# Altium schematic symbol library P2-Adapter-ver1.SchLib: 80 symbols
Pins are listed as number, name and electrical type; pins without a type are passive.

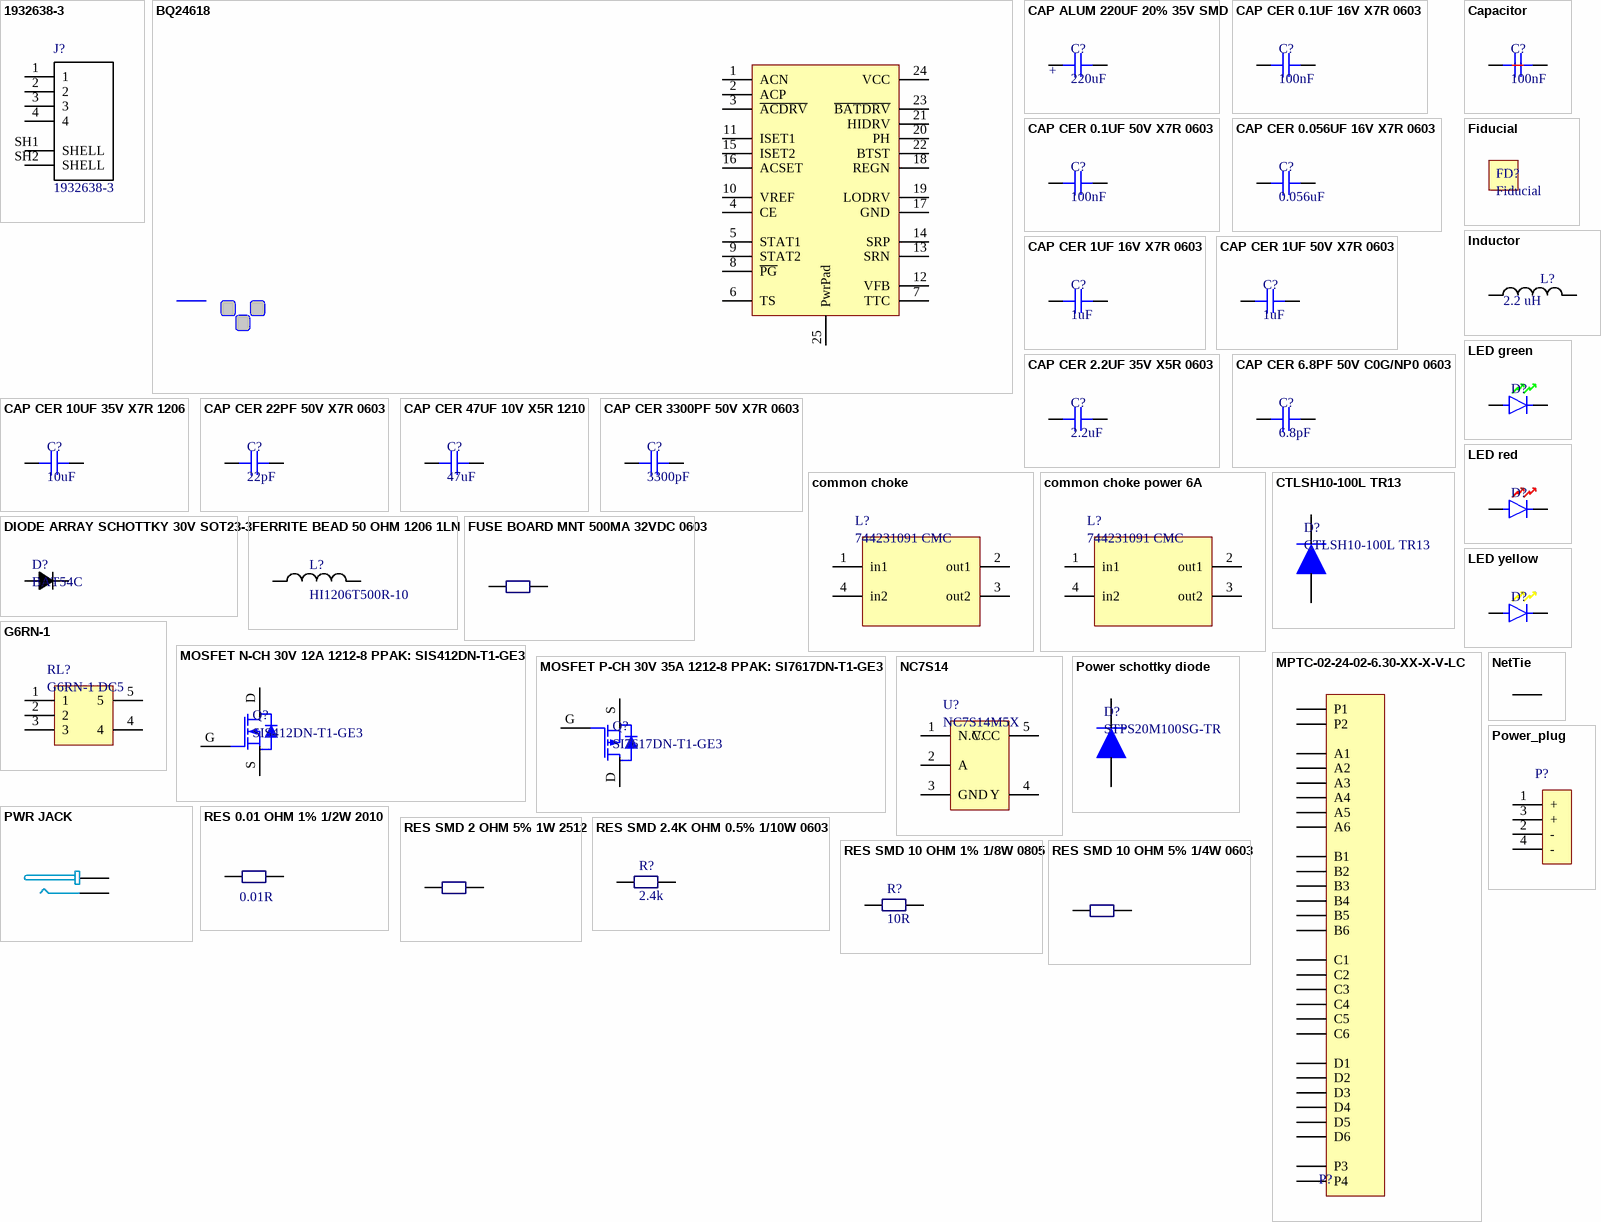
[diagram p0: symbols 1932638-3 to RES SMD 10 OHM 5% 1/4W 0603]

## 1932638-3
designator J?
Conn USB RCP 4 POS 2mm Solder RA SMD 4 Terminal 1 Port T/R; Manufacturer: TE Connectivity; Digi-Key_Purchase_URL: https://www.digikey.no/product-detail/en/te-connectivity-amp-connectors/1932638-3/A117902CT-ND/4729915?WT.z_cid=ref_snapeda&utm_source=snapeda&utm_medium=aggregator&utm_campaign=buynow; Digi-Key_Part_Number: A117902CT-ND; Package: None; SnapEDA_Link: https://www.snapeda.com/parts/1932638-3/TE%20Connectivity%20AMP%20Connectors/view-part/?ref=snap; MPN: 1932638-3; Value: *
footprint TE_1932638-3
pins: 1, 2, 3, 4, SH1 SHELL, SH2 SHELL

## BQ24618
designator U?, comment BQ24618RGET
IC SYNC SW-MODE BAT CHRGR 24VQFN; Manufacturer: Texas Instruments; Supplier Part Number 1: 296-28018-1-ND; MPN: BQ24618RGET; Supplier 1: Digi-Key
footprint BQ24618RGET (BQ24618RGET QFN, 24-Leads, Body 4,00x4,00mm, Pitch 0,50mm, Thermal Pad 2,45x2,45mm, IPC Medium Density)
pins: 1 ACN, 2 ACP, 3 ~{ACDRV}, 4 CE, 5 STAT1, 6 TS, 7 TTC, 8 ~{PG}, 9 STAT2, 10 VREF, 11 ISET1, 12 VFB, 13 SRN, 14 SRP, 15 ISET2, 16 ACSET, 17 GND, 18 REGN, 19 LODRV, 20 PH, 21 HIDRV, 22 BTST, 23 ~{BATDRV}, 24 VCC, 25 PwrPad

## CAP ALUM 220UF 20% 35V SMD
designator C?, comment 220uF
CAP ALUM 220UF 20% 35V SMD; MPN: UCW1V221MNL1GS; Manufacturer: Nichicon; SPN: 493-9430-1-ND; value: 220uF; Supplier: Digi-Key
footprint PCAP_8x10-ELECT
pins: 1, 2
1 alternate drawing of the same symbol
text: +

## CAP CER 0.1UF 16V X7R 0603
designator C?, comment 100nF
CAP CER 0.1UF 16V X7R 0603; MPN: CL10B104KO8NNNC; Manufacturer: Samsung Electro-Mechanics; value: 100nF; Supplier 1: Digi-Key; Supplier Part Number 1: 1276-1005-1-ND
footprint 0603 Capacitor (Chip Capacitor, Body 1.6x0.8mm, Height 0.55mm, IPC High Density)
pins: 1, 2

## CAP CER 0.1UF 50V X7R 0603
designator C?, comment 100nF
CAP CER 0.1UF 50V X7R 0603; MPN: CL10B104KB8NNNC; Manufacturer: Samsung Electro-Mechanics; value: 100nF; Supplier 1: Digi-Key; Supplier Part Number 1: 1276-1000-1-ND
footprint 0603 Capacitor (Chip Capacitor, Body 1.6x0.8mm, Height 0.55mm, IPC High Density)
pins: 1, 2

## CAP CER 0.056UF 16V X7R 0603
designator C?, comment 0.056uF
CAP CER 0.056UF 16V X7R 0603; MPN: CL10B563KO8NNNC; Manufacturer: Samsung Electro-Mechanics; value: 0.056uF; Supplier 1: Digi-Key; Supplier Part Number 1: 1276-2098-1-ND
footprint 0603 Capacitor (Chip Capacitor, Body 1.6x0.8mm, Height 0.55mm, IPC High Density)
pins: 1, 2

## CAP CER 1UF 16V X7R 0603
designator C?, comment 1uF
CAP CER 1UF 16V X7R 0603; MPN: CL10B105MO8NNWC; Manufacturer: Samsung Electro-Mechanics; value: 1uF; Supplier 1: Digi-Key; Supplier Part Number 1: 1276-6524-1-ND
footprint 0603 Capacitor (Chip Capacitor, Body 1.6x0.8mm, Height 0.55mm, IPC High Density)
pins: 1, 2

## CAP CER 1UF 50V X7R 0603
designator C?, comment 1uF
CAP CER 1UF 50V X7R 0603; MPN: UMK107AB7105KA-T; Manufacturer: Taiyo Yuden; value: 1uF; Supplier 1: Digi-Key; Supplier Part Number 1: 587-3247-1-ND
footprint 0603 Capacitor (Chip Capacitor, Body 1.6x0.8mm, Height 0.55mm, IPC High Density)
pins: 1, 2

## CAP CER 2.2UF 35V X5R 0603
designator C?, comment 2.2uF
CAP CER 2.2UF 35V X5R 0603; MPN: C1608X5R1V225M080AC; Manufacturer: TDK Corporation; value: 2.2uF; Supplier 1: Digi-Key; Supplier Part Number 1: 445-8026-1-ND
footprint 0603 Capacitor (Chip Capacitor, Body 1.6x0.8mm, Height 0.55mm, IPC High Density)
pins: 1, 2

## CAP CER 6.8PF 50V C0G/NP0 0603
designator C?, comment 6.8pF
CAP CER 6.8PF 50V C0G/NP0 0603; MPN: CL10C6R8BB8NNNC; Manufacturer: Samsung; value: 6.8pF; Supplier 1: Digi-Key; Supplier Part Number 1: 1276-2332-1-ND
footprint 0603 Capacitor (Chip Capacitor, Body 1.6x0.8mm, Height 0.55mm, IPC High Density)
pins: 1, 2

## CAP CER 10UF 35V X7R 1206
designator C?, comment 10uF
CAP CER 10UF 35V X7R 1206; MPN: GMK316AB7106KL-TR; Manufacturer: Taiyo Yuden; value: 10uF; Supplier 1: Digi-Key; Supplier Part Number 1: 587-3007-1-ND
footprint 1206 CAPACITOR
pins: 1, 2

## CAP CER 22PF 50V X7R 0603
designator C?, comment 22pF
CAP CER 22PF 50V X7R 0603; MPN: 06035C220JAT2A; Manufacturer: AVX Corporation; value: 22pF; Supplier 1: Digi-Key; Supplier Part Number 1: 478-6204-1-ND
footprint 0603 Capacitor (Chip Capacitor, Body 1.6x0.8mm, Height 0.55mm, IPC High Density)
pins: 1, 2

## CAP CER 47UF 10V X5R 1210
designator C?, comment 47uF
CAP CER 47UF 10V X5R 1210; MPN: GRM32ER61A476KE20L; Manufacturer: Murata; SPN: 490-3887-1-ND; value: 47uF; Supplier: Digi-Key
footprint 1210_Chip2PinSM127P600-8N
pins: 1, 2

## CAP CER 3300PF 50V X7R 0603
designator C?, comment 3300pF
CAP CER 3300PF 50V X7R 0603; MPN: CL10B332KB8NNNC; Manufacturer: Samsung; SPN: 1276-1758-1-ND; value: 3300pF; Supplier: Digi-Key
footprint 0603 Capacitor (Chip Capacitor, Body 1.6x0.8mm, Height 0.55mm, IPC High Density)
pins: 1, 2

## Capacitor
designator C?, comment 100nF
Capacitor default; value: 100nF
pins: 1, 2

## common choke
designator L?, comment 744231091 CMC
CMC 370MA 2LN 90 OHM SMD; Manufacturer: Wurth Electronics Inc.; SPN: 732-3198-1-ND; MPN: 744231091; Supplier: Digikey
footprint 744231091 CMC (CMC 370MA 2LN 90 OHM SMD)
pins: 1 in1, 2 out1, 3 out2, 4 in2

## common choke power 6A
designator L?, comment 744231091 CMC
CMC 6A 2LN 100 OHM SMD; MPN: DLW5BTM101SQ2L; Manufacturer: Murata; SPN: 490-12642-1-ND; Supplier: Digikey
footprint Choke_power
pins: 1 in1, 2 out1, 3 out2, 4 in2

## CTLSH10-100L TR13
designator D?
DIODE SCHOTTKY 100V 10A 3TLM; Manufacturer: Central semiconductor; SPN: CTLSH10-100L CT-ND; MPN: CTLSH10-100L TR13; Supplier: Digikey
footprint TLM364
pins: A, K

## DIODE ARRAY SCHOTTKY 30V SOT23-3
designator D?, comment BAT54C
DIODE ARRAY SCHOTTKY 30V SOT23-3; Manufacturer: ON Semiconductor; MPN: BAT54C; Supplier 1: Digi-Key; Supplier Part Number 1: BAT54CFSCT-ND
footprint BAT54C
pins: 1, 3

## FERRITE BEAD 50 OHM 1206 1LN
designator L?, comment HI1206T500R-10
FERRITE BEAD 50 OHM 1206 1LN; Manufacturer: Laird-Signal Integrity Products; SPN: 240-2412-1-ND; MPN: HI1206T500R-10; Supplier: Digi-Key
footprint 1206
pins: 1, 2

## Fiducial
designator FD?
footprint Fiducial

## FUSE BOARD MNT 500MA 32VDC 0603
designator Fuse, comment ERB-RE0R50V  (value not drawn)
FUSE BOARD MNT 500MA 32VDC 0603; Manufacturer: Panasonic Electronic Components; Supplier Part Number 1: P15127CT-ND; MPN: ERB-RE0R50V; Supplier: Digi-Key
footprint 0603 Resistor (Chip Resistor, Body 1.6x0.8mm, IPC High Density)
pins: 1, 2

## G6RN-1
designator RL?, comment G6RN-1 DC5
RELAY GENERAL PURPOSE SPDT 8A 5V; Manufacturer: Omron Electronics Inc-EMC Div; SPN: Z987-ND; MPN: G6RN-1 DC5
footprint G6RN_1
pins: 1, 2, 3, 4, 5

## Inductor
designator L?, comment 2.2 uH
Inductor default; Supplier 1: Digi-Key; value: 2.2 uH
pins: 1, 2

## LED green
designator D?
LED GREEN CLEAR 0603 SMD; Manufacturer: Bivar; MPN: SM0603GCL; SPN: SM0603GCL-ND; Supplier: Digi-Key
pins: 1, 2

## LED red
designator D?
LED RED 0603 SMD; Manufacturer: Vishay Semiconductors; MPN: TLMS1000-GS08; SPN: TLMS1000-GS08CT-ND; Supplier: Digi-Key
pins: 1, 2

## LED yellow
designator D?
LED YELLOW 0603 SMD; Manufacturer: Vishay Semiconductors; MPN: TLMY1000-GS08; SPN: TLMY1000-GS08CT-ND; Supplier: Digi-Key
pins: 1, 2

## MOSFET N-CH 30V 12A 1212-8 PPAK: SIS412DN-T1-GE3
designator Q?, comment SIS412DN-T1-GE3
MOSFET N-CH 30V 12A 1212-8 PPAK; Manufacturer: Vishay Siliconix; MPN: SIS412DN-T1-GE3; Supplier 1: Digi-key; Supplier Part Number 1: SIS412DN-T1-GE3CT-ND
footprint SIS412DN-T1-GE3
pins: D, G, S

## MOSFET P-CH 30V 35A 1212-8 PPAK: SI7617DN-T1-GE3
designator Q?, comment SI7617DN-T1-GE3
MOSFET P-CH 30V 35A 1212-8 PPAK; Manufacturer: Vishay Siliconix; MPN: SI7617DN-T1-GE3; Supplier 1: Digi-key; Supplier Part Number 1: SI7617DN-T1-GE3CT-ND
footprint SI7617DN-T1-GE3
pins: D, G, S

## MPTC-02-24-02-6.30-XX-X-V-LC
designator P?  (value not drawn)
Samtec PowerStrip 30A Signal/Power Combo Connector; MPN: MPTC-02-24-02-6.30-01-L-V; Manufacturer: Samtec
footprint MPTC-02-24-02-6.30-XX-X-V-LC (Samtec Power Strip 30A series MPTC)
pins: A1, A2, A3, A4, A5, A6, B1, B2, B3, B4, B5, B6, C1, C2, C3, C4, C5, C6, D1, D2, D3, D4, D5, D6, P1, P2, P3, P4

## NC7S14
designator U?, comment NC7S14M5X
Inverter IC 1 Channel Schmitt Trigger; Manufacturer: ON Semiconductor; SPN: NC7S14M5XCT-ND; MPN: NC7S14M5X
footprint SOT23-5
pins: 1 N.C., 2 A, 3 GND, 4 Y, 5 VCC

## NetTie
designator NT?, comment Net Tie  (value not drawn)  (net tie, no BOM)
"Blank" Component to tie nets
footprint NetTie (Dummy Net Tie)
pins: 1, 2

## Power schottky diode
designator D?, comment STPS20M100SG-TR
DIODE SCHOTTKY 100V 20A D2PAK; Manufacturer: STmicroelectronics; SPN: 497-10993-1-ND; MPN: STPS20M100SG-TR; Supplier: Digikey
footprint D2PAK (D2-PAK, 3-Pads, Body 7,77x8,64mm (max), IPC Medium Density)
pins: A, K

## Power_plug
designator P?  (value not drawn)
AC/DC converter connector; Manufacturer: Taiji electronics; MPN: 2MJ-3432-007
footprint 2MJ-3432-007
pins: 1 +, 2 -, 3 +, 4 -

## PWR JACK
designator P?, comment PJ-082BH
CONN PWR JACK 2.5X5.5MM SOLDER; Manufacturer: CUI Inc.; Supplier Part Number 1: CP-082BHTR-ND; MPN: PJ-082BH; Supplier 1: Digi-Key
footprint PJ-082BH
pins: 1, 2

## RES 0.01 OHM 1% 1/2W 2010
designator R?, comment WSL2010R0100FEA  value 0.01R
RES 0.01 OHM 1% 1/2W 2010; Manufacturer: Vishay Dale; Supplier Part Number 1: WSLE-.01CT-ND; MPN: WSL2010R0100FEA; Supplier 1: Digi-Key
footprint WSL2010R0100FEA
pins: 1, 2

## RES SMD 2 OHM 5% 1W 2512
designator R?, comment 2R
RES SMD 2 OHM 5% 1W 2512; Manufacturer: Stackpole Electronics Inc.; MPN: RMCF2512JT2R00; Supplier Part Number 1: RMCF2512JT2R00CT-ND; Supplier 1: Digi-Key; Value: 2R
pins: 1, 2

## RES SMD 2.4K OHM 0.5% 1/10W 0603
designator R?, comment 2.4k
RES SMD 2.4K OHM 0.5% 1/10W 0603; MPN: RT0603DRE072K4L; Manufacturer: Yageo; SPN: 311-2519-1-ND; Supplier: Digi-Key; value: 2.4k
footprint 0603 Resistor (Chip Resistor, Body 1.6x0.8mm, IPC High Density)
pins: 1, 2

## RES SMD 10 OHM 1% 1/8W 0805
designator R?, comment 10R
RES SMD 10 OHM 1% 1/8W 0805; MPN: RC0805FR-0710RL; Manufacturer: Yageo; SPN: 311-10.0CRCT-ND; Supplier: Digi-Key; value: 10R
footprint RESC2012X06N (Chip Resistor, 2-Leads, Body 2.00x1.25mm, IPC Medium Density)
pins: 1, 2

## RES SMD 10 OHM 5% 1/4W 0603
designator R?, comment 10R
RES SMD 10 OHM 5% 1/4W 0603; Manufacturer: Rohm Semiconductor; MPN: ESR03EZPF10R0; SPN: RHM10.0ADCT-ND; Supplier: DigiKey; Value: 10R
footprint 0603 Resistor (Chip Resistor, Body 1.6x0.8mm, IPC High Density)
pins: 1, 2

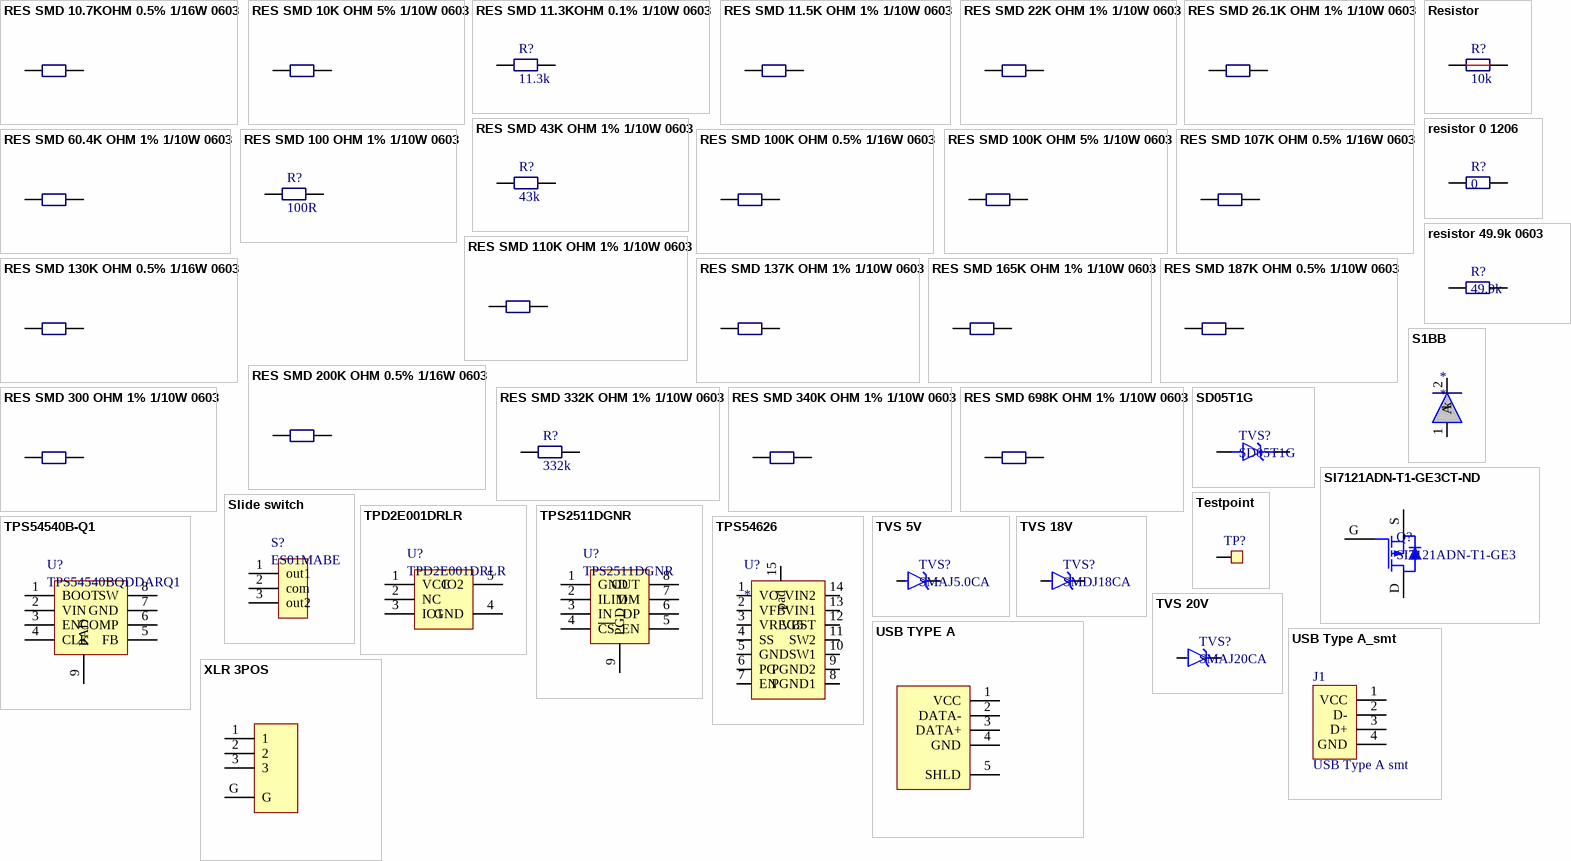
[diagram p1: symbols RES SMD 10.7KOHM 0.5% 1/16W 0603 to XLR 3POS]

## RES SMD 10.7KOHM 0.5% 1/16W 0603
designator R?, comment 10k7
RES SMD 10.7KOHM 0.5% 1/16W 0603; Manufacturer: Susumu; MPN: RR0816P-1072-D-04C; Supplier Part Number 1: RR08P10.7KDCT-ND; Supplier 1: Digi-Key; Value: 10k7
footprint 0603 Resistor (Chip Resistor, Body 1.6x0.8mm, IPC High Density)
pins: 1, 2

## RES SMD 10K OHM 5% 1/10W 0603
designator R?, comment 10k
RES SMD 10K OHM 5% 1/10W 0603; Manufacturer: Yageo; MPN: RC0603JR-0710KL; Supplier Part Number 1: 311-10KGRCT-ND; Supplier 1: Digi-Key; Value: 10k
footprint 0603 Resistor (Chip Resistor, Body 1.6x0.8mm, IPC High Density)
pins: 1, 2

## RES SMD 11.3KOHM 0.1% 1/10W 0603
designator R?, comment 11.3k
RES SMD 11.3KOHM 0.1% 1/10W 0603; MPN: RT0603BRD0711K3L; Manufacturer: Yageo; SPN: YAG4468CT-ND; Supplier: Digi-Key; Value: 11.3k
pins: 1, 2

## RES SMD 11.5K OHM 1% 1/10W 0603
designator R?, comment 11K5
RES SMD 11.5K OHM 1% 1/10W 0603; Manufacturer: Yageo; MPN: RR0816P-1072-D-04C; SPN: 311-11.5KHRCT-ND; Supplier: Digi-Key; Value: 11K5
footprint 0603 Resistor (Chip Resistor, Body 1.6x0.8mm, IPC High Density)
pins: 1, 2

## RES SMD 22K OHM 1% 1/10W 0603
designator R?, comment 22K
RES SMD 22K OHM 1% 1/10W 0603; Manufacturer: Yageo; MPN: RC0603FR-0722KL; SPN: 311-22.0KHRCT-ND; Supplier: Digi-Key; Value: 22K
footprint 0603 Resistor (Chip Resistor, Body 1.6x0.8mm, IPC High Density)
pins: 1, 2

## RES SMD 26.1K OHM 1% 1/10W 0603
designator R?, comment 26K1
RES SMD 26.1K OHM 1% 1/10W 0603; Manufacturer: Yageo; MPN: RC0603FR-0726K1L; SPN: 311-26.1KHRCT-ND; Supplier: Digi-Key; Value: 26K1
footprint 0603 Resistor (Chip Resistor, Body 1.6x0.8mm, IPC High Density)
pins: 1, 2

## RES SMD 43K OHM 1% 1/10W 0603
designator R?, comment 43k
RES SMD 43K OHM 1% 1/10W 0603; MPN: RC0603FR-0743KL; Manufacturer: Yageo; SPN: 311-43.0KHRCT-ND; Supplier: Digi-Key
footprint 0603 Resistor (Chip Resistor, Body 1.6x0.8mm, IPC High Density)
pins: 1, 2

## RES SMD 60.4K OHM 1% 1/10W 0603
designator R?, comment 60K4
RES SMD 60.4K OHM 1% 1/10W 0603; Manufacturer: Yageo; MPN: RC0603FR-0760K4L; SPN: 311-60.4KHRCT-ND; Supplier: Digi-Key; Value: 60K4
footprint 0603 Resistor (Chip Resistor, Body 1.6x0.8mm, IPC High Density)
pins: 1, 2

## RES SMD 100 OHM 1% 1/10W 0603
designator R?, comment 100R
RES SMD 100 OHM 1% 1/10W 0603; MPN: RC0603FR-07100RL; Manufacturer: Yageo; SPN: 311-100HRCT-ND; Supplier: Digi-Key; value: 100R
footprint 0603 Resistor (Chip Resistor, Body 1.6x0.8mm, IPC High Density)
pins: 1, 2

## RES SMD 100K OHM 0.5% 1/16W 0603
designator R?, comment 100k
RES SMD 100K OHM 0.5% 1/16W 0603; Manufacturer: Susumu; MPN: RR0816P-104-D; Supplier Part Number 1: RR08P100KDCT-ND; Supplier 1: Digi-Key; Value: 100k
footprint 0603 Resistor (Chip Resistor, Body 1.6x0.8mm, IPC High Density)
pins: 1, 2

## RES SMD 100K OHM 5% 1/10W 0603
designator R?, comment 100k
RES SMD 100K OHM 5% 1/10W 0603; Manufacturer: Yageo; MPN: RC0603JR-07100KL; Supplier Part Number 1: 311-100KGRCT-ND; Supplier 1: Digi-Key; Value: 100k
footprint 0603 Resistor (Chip Resistor, Body 1.6x0.8mm, IPC High Density)
pins: 1, 2

## RES SMD 107K OHM 0.5% 1/16W 0603
designator R?, comment 107k
RES SMD 107K OHM 0.5% 1/16W 0603; Manufacturer: Susumu; MPN: RR0816P-1073-D-04D; Supplier Part Number 1: 408-1733-1-ND; Supplier 1: Digi-Key; Value: 107k
footprint 0603 Resistor (Chip Resistor, Body 1.6x0.8mm, IPC High Density)
pins: 1, 2

## RES SMD 110K OHM 1% 1/10W 0603
designator R?, comment 110k
RES SMD 110K OHM 1% 1/10W 0603; Manufacturer: Yageo; MPN: RC0603FR-07110KL; Supplier Part Number 1: 311-110KHRCT-ND; Supplier: Digi-Key; Value: 110k
footprint 0603 Resistor (Chip Resistor, Body 1.6x0.8mm, IPC High Density)
pins: 1, 2

## RES SMD 130K OHM 0.5% 1/16W 0603
designator R?, comment 130k
RES SMD 130K OHM 0.5% 1/16W 0603; Manufacturer: Susumu; MPN: RR0816P-134-D; Supplier Part Number 1: RR08P130KDCT-ND; Supplier 1: Digi-Key; Value: 130k
footprint 0603 Resistor (Chip Resistor, Body 1.6x0.8mm, IPC High Density)
pins: 1, 2

## RES SMD 137K OHM 1% 1/10W 0603
designator R?, comment 137k
RES SMD 137K OHM 1% 1/10W 0603; Manufacturer: Yageo; MPN: RC0603FR-07137KL; Supplier Part Number 1: 311-137KHRCT-ND; Supplier 1: Digi-Key; Value: 137k
footprint 0603 Resistor (Chip Resistor, Body 1.6x0.8mm, IPC High Density)
pins: 1, 2

## RES SMD 165K OHM 1% 1/10W 0603
designator R?, comment 165k
RES SMD 165K OHM 1% 1/10W 0603; Manufacturer: Yageo; MPN: RC0603FR-07165KL; Supplier Part Number 1: 311-165KHRCT-ND; Supplier 1: Digi-Key; Value: 165k
footprint 0603 Resistor (Chip Resistor, Body 1.6x0.8mm, IPC High Density)
pins: 1, 2

## RES SMD 187K OHM 0.5% 1/10W 0603
designator R?, comment 187k
RES SMD 187K OHM 0.5% 1/10W 0603; Manufacturer: Yageo; MPN: RT0603DRE07187KL; Supplier Part Number 1: 311-2449-1-ND; Supplier 1: Digi-Key; Value: 187k
footprint 0603 Resistor (Chip Resistor, Body 1.6x0.8mm, IPC High Density)
pins: 1, 2

## RES SMD 200K OHM 0.5% 1/16W 0603
designator R?, comment 200k
RES SMD 200K OHM 0.5% 1/16W 0603; Manufacturer: Susumu; MPN: RR08P200KDCT-ND; Supplier Part Number 1: RR08P200KDCT-ND; Supplier 1: Digi-Key; Value: 200k
footprint 0603 Resistor (Chip Resistor, Body 1.6x0.8mm, IPC High Density)
pins: 1, 2

## RES SMD 300 OHM 1% 1/10W 0603
designator R?, comment 320
RES SMD 300 OHM 1% 1/10W 0603; Manufacturer: Yageo; MPN: RC0603FR-07300RL; SPN: 311-300HRCT-ND; Supplier: Digi-Key; Value: 320
footprint 0603 Resistor (Chip Resistor, Body 1.6x0.8mm, IPC High Density)
pins: 1, 2

## RES SMD 332K OHM 1% 1/10W 0603
designator R?, comment 332k
RES SMD 332K OHM 1% 1/10W 0603; MPN: RC0603FR-07332KL; Manufacturer: Yageo; SPN: 311-332KHRCT-ND; Supplier: Digi-key; Value: 332k
footprint 0603 Resistor (Chip Resistor, Body 1.6x0.8mm, IPC High Density)
pins: 1, 2

## RES SMD 340K OHM 1% 1/10W 0603
designator R?, comment 340k
RES SMD 340K OHM 1% 1/10W 0603; Manufacturer: Yageo; MPN: RC0603FR-07340KL; Supplier Part Number 1: 311-340KHRCT-ND; Supplier 1: Digi-Key; Value: 340k
footprint 0603 Resistor (Chip Resistor, Body 1.6x0.8mm, IPC High Density)
pins: 1, 2

## RES SMD 698K OHM 1% 1/10W 0603
designator R?, comment 698k
RES SMD 698K OHM 1% 1/10W 0603; Manufacturer: Yageo; MPN: RC0603FR-07698KL; Supplier Part Number 1: 311-698KHRCT-ND; Supplier 1: Digi-Key; Value: 698k
footprint 0603 Resistor (Chip Resistor, Body 1.6x0.8mm, IPC High Density)
pins: 1, 2

## Resistor
designator R?, comment 10k
Resistor default; value: 10k
pins: 1, 2

## resistor 0 1206
designator R?, comment 0
Thick Film Resistors 10 5%; Manufacturer: Yageo; MPN: RC1206JR-070RL; SPN: 311-0.0ERCT-ND; Supplier: Digikey; value: 0
footprint 1206
pins: 1, 2

## resistor 49.9k 0603
designator R?, comment 49.9k
Thick Film Resistors 49.9Kohms 1%; Manufacturer: Panasonic; MPN: ERJ-3EKF4992V; SPN: 667-ERJ-3EKF4992V; Supplier: Mouser; value: 49.9k
footprint 0603 Resistor (Chip Resistor, Body 1.6x0.8mm, IPC High Density)
pins: 1, 2

## S1BB
designator *
Rectifiers 1A,100V,Glass Pass SMB Rect; Manufacturer: Taiwan Semiconductor; MPN: S1BB; SPN: 821-S1BB; Supplier: Mouser
footprint SMB (DO-214-AA/SMB; 2 C-Bend Leads; Body 5.3 x 3.6 mm, inc. leads (LxW))
pins: 1 A, 2 k

## SD05T1G
designator TVS?
TVS DIODE 5VWM 9.8VC SOD323; Manufacturer: ON Semiconductor; SPN: SD05T1GOSDKR-ND; MPN: SD05T1G; Supplier: Digi-key
footprint SOD-323
pins: A 3, K 4

## SI7121ADN-T1-GE3CT-ND
designator Q?, comment SI7121ADN-T1-GE3
MOSFET P-CH 30V D-S PPAK 1212-8; Manufacturer: Vishay Siliconix; SPN: SI7121ADN-T1-GE3CT-ND; MPN: SI7121ADN-T1-GE3; Supplier: Digi-key
footprint SI7617DN-T1-GE3
pins: D, G, S

## Slide switch
designator S?, comment ES01MABE
SWITCH SLIDE SPDT 0.4VA 20V; Manufacturer: C&K; SPN: CKN1779DKR-ND; MPN: ES01MABE
footprint ES03MSABE
pins: 1 out1, 2 com, 3 out2

## Testpoint
designator TP?  (value not drawn)  (no BOM)
Testpoint
footprint Testpoint
pins: 1

## TPD2E001DRLR
designator U?
TVS DIODE 5.5VWM 100VC SOT5; Manufacturer: Texas Instruments; SPN: 296-21883-1-ND; MPN: TPD2E001DRLR; Supplier: Digikey
footprint SOT-553
pins: 1 VCC, 2 NC, 3 IO1, 4 GND, 5 IO2

## TPS2511DGNR
designator U?
IC USB PWR SW/CTRLR CHRG 8MSOP; Manufacturer: Texas Instruments; SPN: 296-30552-1-ND; MPN: TPS2511DGNR; Supplier: Digikey
footprint MPSOC-8
pins: 1 GND, 2 ILIM, 3 IN, 4 ~{CS}, 5 EN, 6 DP, 7 DM, 8 OUT, 9 PGD

## TPS54540B-Q1
designator U?, comment TPS54540BQDDARQ1
Switching Voltage Regulators ARIES AUTO BQ 5A/42V TPS54540BQDDARQ1; Manufacturer: Texas Instruments; SPN: 595-TPS54540BQDDARQ1; MPN: TPS54540BQDDARQ1; Supplier: Mouser
footprint DDA (TPS54540B)
pins: 1 BOOT, 2 VIN, 3 EN, 4 CLK, 5 FB, 6 COMP, 7 GND, 8 SW, 9 PAD

## TPS54626
designator U?
footprint PWP14_2P31X2P46
pins: 1 VO, 2 VFB, 3 VREG5, 4 SS, 5 GND, 6 PG, 7 EN, 8 PGND1, 9 PGND2, 10 SW1, 11 SW2, 12 VBST, 13 VIN1, 14 VIN2, 15 pad

## TVS 5V
designator TVS?, comment SMAJ5.0CA
TVS DIODE 5VWM 9.2VC SMA; Manufacturer: Bourns Inc.; SPN: SMAJ5.0CALFCT-ND; Supplier: Digikey; MPN: SMAJ5.0CA
footprint TVS diode
pins: 1, 2

## TVS 18V
designator TVS?, comment SMDJ18CA
TVS DIODE 18VWM 29.2VC SMD; Manufacturer: Bourns Inc.; SPN: SMDJ18CACT-ND; Supplier: Digikey; MPN: SMDJ18CA
footprint TVS diode
pins: 1, 2

## TVS 20V
designator TVS?, comment SMAJ20CA
TVS DIODE 20VWM 32.4VC SMA; Manufacturer: Bourns Inc.; SPN: SMAJ20CALFCT-ND; Supplier: Digikey; MPN: SMAJ20CA
footprint TVS diode
pins: 1, 2

## USB TYPE A
designator J?, comment 896-43-004-00-000000
CONN RECEPT USB TYPE A SMT; Manufacturer: Mill-Max Manufacturing Corp.; Supplier Part Number 1: ED90065-ND; MPN: 896-43-004-00-000000; Supplier 1: Digi-Key
footprint 896-43-004-00-000000
pins: 1 VCC, 2 DATA-, 3 DATA+, 4 GND, 5 SHLD

## USB Type A_smt
designator J1, comment USB Type A smt
USB Connectors TYPE A SINGLE SMT; MPN: 896-43-004-00-000000; Manufacturer: Mill-Max; SPN: 575-4300400; Supplier: Mouser
footprint USB A Mill Max
footprint USB A Mill Max
pins: 1 VCC, 2 D-, 3 D+, 4 GND

## XLR 3POS
designator J?, comment AG3FCCH
CONN PLUG FMALE XLR 3POS GOLD; Manufacturer: Amphenol Sine Systems Corp; Supplier Part Number 1: 889-1839-ND; MPN: AG3FCCH; Supplier 1: Digi-Key
footprint AG3FCCH
pins: 1, 2, 3, G